# Altium footprint library Footprint.PcbLib: 105 footprints (part 4 of 7)
Each footprint in its own frame and in the unit in brackets; x right, y up, seen from the top. Pads: shape width x height; smd on the part's side, far side on the other; paste and mask are expansions set on the pad; w line width, h text height; cw(c..) or ccw(c..) is an arc to the next point about the centre after c.
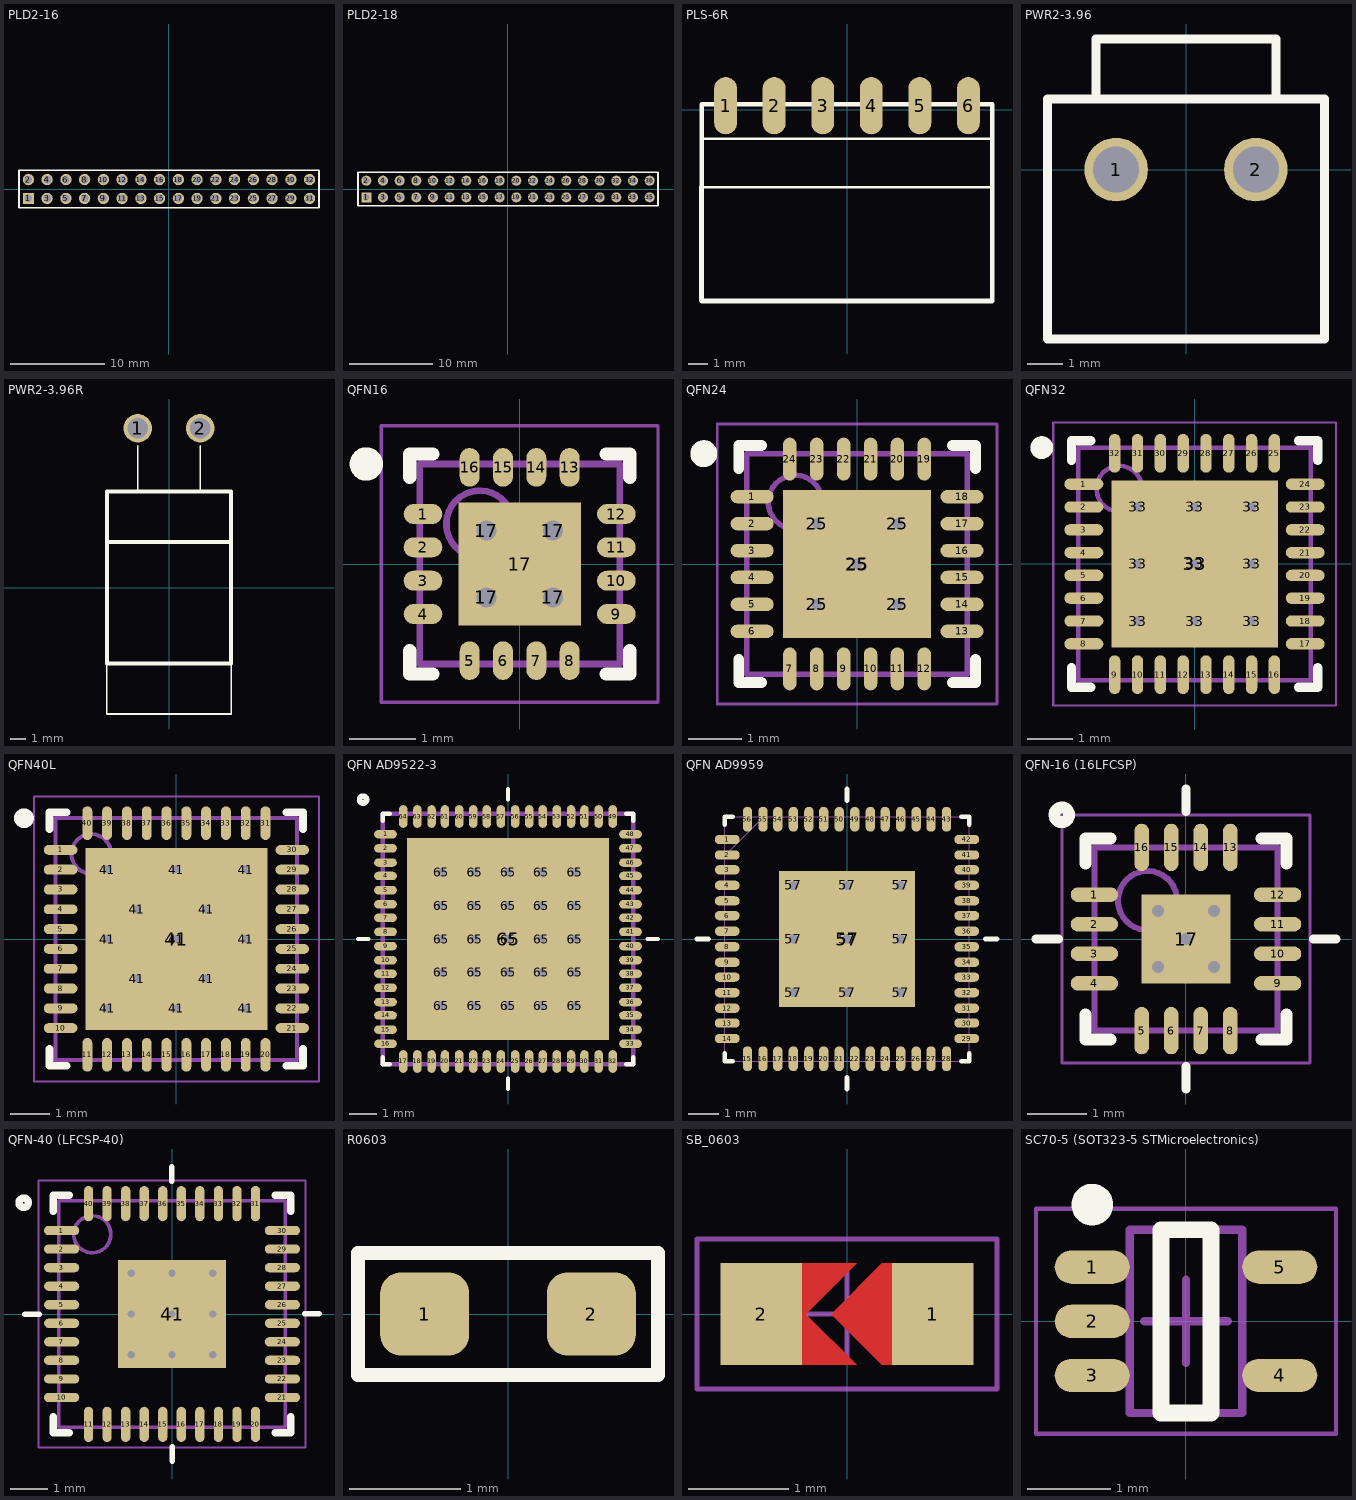
[diagram p3: the footprints below, top view; thin cyan lines are the x and y axes]

## PLD2-16 [mm]
pads (32):
  rect 1.2x1.2 hole 0.8: 1(-15,-1)
  round 1.2 hole 0.8: 2(-15,1) 3(-13,-1) 4(-13,1) 5(-11,-1) 6(-11,1) 7(-9,-1) 8(-9,1) 9(-7,-1) 10(-7,1) 11(-5,-1) 12(-5,1) 13(-3,-1) 14(-3,1) 15(-1,-1) 16(-1,1) 17(1,-1) 18(1,1) 19(3,-1) 20(3,1) 21(5,-1) 22(5,1) 23(7,-1) 24(7,1) 25(9,-1) 26(9,1) 27(11,-1) 28(11,1) 29(13,-1) 30(13,1) 31(15,-1) 32(15,1)
Top Overlay:
  lines w0.2: -16,1 -16,1.935 ; -16,-2 -16,2 16,2 16,-2 -16,-2

## PLD2-18 [mm]
pads (36):
  rect 1.2x1.2 hole 0.8: 1(-17,-1)
  round 1.2 hole 0.8: 2(-17,1) 3(-15,-1) 4(-15,1) 5(-13,-1) 6(-13,1) 7(-11,-1) 8(-11,1) 9(-9,-1) 10(-9,1) 11(-7,-1) 12(-7,1) 13(-5,-1) 14(-5,1) 15(-3,-1) 16(-3,1) 17(-1,-1) 18(-1,1) 19(1,-1) 20(1,1) 21(3,-1) 22(3,1) 23(5,-1) 24(5,1) 25(7,-1) 26(7,1) 27(9,-1) 28(9,1) 29(11,-1) 30(11,1) 31(13,-1) 32(13,1) 33(15,-1) 34(15,1) 35(17,-1) 36(17,1)
Top Overlay:
  lines w0.2: -18,1 -18,1.935 ; -18,-2 18,-2 18,2 -18,2 -18,-2

## PLS-6R [mm]
pads (6):
  oval 1.2x3 smd: 1(-6.35,0.225) 2(-3.81,0.225) 3(-1.27,0.225) 4(1.27,0.225) 5(3.81,0.225) 6(6.35,0.225)
Top Overlay:
  lines w0.127: -7.62,-4.04 -7.62,-1.5 7.62,-1.5 7.62,-4.04 -7.62,-4.04
  lines w0.254: -7.62,-9.98 -7.62,-4.04 -7.6,-4.02 -7.6,0.3 7.6,0.3 7.6,-4.06 7.6,-10 -7.6,-10 -7.62,-9.98

## PWR2-3.96 [mm]
pads (2):
  round 1.8 hole 1.3: 1(-1.98,0) 2(1.98,0)
Top Overlay:
  lines w0.254: -2.55,2 -2.55,3.7 2.55,3.7 2.55,2 ; -3.93,-4.8 3.93,-4.8 3.93,2 -3.93,2 -3.93,-4.8

## PWR2-3.96R [mm]
pads (2):
  round 1.8 hole 1.3: 1(-1.98,10.1) 2(1.98,10.1)
Top Overlay:
  lines w0.1: -3.93,-4.8 -3.93,-8 3.93,-8 3.93,-4.8 ; -1.98,6.1 -1.98,9 ; 1.98,6.1 1.98,9
  lines w0.254: -3.925,2.9 3.9,2.9 ; -3.93,-4.8 3.93,-4.8 3.93,6.1 -3.93,6.1 -3.93,-4.8

## QFN16 [mm] "QFN16 3x3 0.5P"
height 1
pads (21):
  oval 0.58x0.3 smd: 1(-1.45,0.75) 2(-1.45,0.25) 3(-1.45,-0.25) 4(-1.45,-0.75) 9(1.45,-0.75) 10(1.45,-0.25) 11(1.45,0.25) 12(1.45,0.75)
  oval 0.3x0.58 smd: 5(-0.75,-1.45) 6(-0.25,-1.45) 7(0.25,-1.45) 8(0.75,-1.45) 13(0.75,1.45) 14(0.25,1.45) 15(-0.25,1.45) 16(-0.75,1.45)
  round 0.7 hole 0.3: 17(-0.5,-0.5) 17(-0.5,0.5) 17(0.5,-0.5) 17(0.5,0.5)
  rect 1.84x1.84 smd: 17(0,0)
Top Overlay:
  circle w0.25: c-2.3,1.5 r0.125
  lines w0.2: -1.65,-1.3 -1.65,-1.65 -1.3,-1.65 ; -1.65,1.3 -1.65,1.65 -1.3,1.65 ; 1.3,-1.65 1.65,-1.65 1.65,-1.3 ; 1.3,1.65 1.65,1.65 1.65,1.3
Mechanical 13:
  circle w0.1: c-0.6,0.6 r0.5
  lines w0.1: -1.5,-1.5 -1.5,1.5 1.5,1.5 1.5,-1.5 -1.5,-1.5
Mechanical 15:
  lines w0.05: -2.075,-2.075 -2.075,2.075 2.075,2.075 2.075,-2.075 -2.075,-2.075
  lines w0.1: -0.5,0 0.5,0 ; 0,-0.5 0,0.5
3D body: height 1, standoff 0.03, extent -1.5,-1.5 1.5,1.5

## QFN24 [mm] "QFN, 24-Leads, Body 4.00x4.00mm, Pitch 0.50mm, Thermal Pad 2.75x2.75mm, IPC Medium Density"
height 0.9
pads (30):
  oval 0.8x0.25 smd: 1(-1.95,1.25) 2(-1.95,0.75) 3(-1.95,0.25) 4(-1.95,-0.25) 5(-1.95,-0.75) 6(-1.95,-1.25) 13(1.95,-1.25) 14(1.95,-0.75) 15(1.95,-0.25) 16(1.95,0.25) 17(1.95,0.75) 18(1.95,1.25)
  oval 0.25x0.8 smd: 7(-1.25,-1.95) 8(-0.75,-1.95) 9(-0.25,-1.95) 10(0.25,-1.95) 11(0.75,-1.95) 12(1.25,-1.95) 19(1.25,1.95) 20(0.75,1.95) 21(0.25,1.95) 22(-0.25,1.95) 23(-0.75,1.95) 24(-1.25,1.95)
  round 0.5 hole 0.2: 25(-0.75,-0.75) 25(-0.75,0.75) 25(0,0) 25(0.75,-0.75) 25(0.75,0.75)
  rect 2.75x2.75 smd: 25(0,0)
Top Overlay:
  circle w0.25: c-2.85,2.05 r0.125
  lines w0.2: -2.2,-1.775 -2.2,-2.2 -1.775,-2.2 ; -2.2,1.775 -2.2,2.2 -1.775,2.2 ; 1.775,-2.2 2.2,-2.2 2.2,-1.775 ; 1.775,2.2 2.2,2.2 2.2,1.775
Mechanical 13:
  circle w0.1: c-1.15,1.15 r0.5
  lines w0.1: -2.05,-2.05 2.05,-2.05 2.05,2.05 -2.05,2.05 -2.05,-2.05
Mechanical 15:
  lines w0.05: -2.6,-2.6 2.6,-2.6 2.6,2.6 -2.6,2.6 -2.6,-2.6
  lines w0.1: -0.5,0 0.5,0 ; 0,-0.5 0,0.5
3D body: height 0.9, standoff 0, extent -2.05,-2.05 2.05,2.05

## QFN32 [mm]
height 1
pads (42):
  oval 0.85x0.25 smd: 1(-2.425,1.75) 2(-2.425,1.25) 3(-2.425,0.75) 4(-2.425,0.25) 5(-2.425,-0.25) 6(-2.425,-0.75) 7(-2.425,-1.25) 8(-2.425,-1.75) 17(2.425,-1.75) 18(2.425,-1.25) 19(2.425,-0.75) 20(2.425,-0.25) 21(2.425,0.25) 22(2.425,0.75) 23(2.425,1.25) 24(2.425,1.75)
  oval 0.25x0.85 smd: 9(-1.75,-2.425) 10(-1.25,-2.425) 11(-0.75,-2.425) 12(-0.25,-2.425) 13(0.25,-2.425) 14(0.75,-2.425) 15(1.25,-2.425) 16(1.75,-2.425) 25(1.75,2.425) 26(1.25,2.425) 27(0.75,2.425) 28(0.25,2.425) 29(-0.25,2.425) 30(-0.75,2.425) 31(-1.25,2.425) 32(-1.75,2.425)
  round 0.5 hole 0.2: 33(-1.25,-1.25) 33(-1.25,0) 33(-1.25,1.25) 33(0,-1.25) 33(0,0) 33(0,1.25) 33(1.25,-1.25) 33(1.25,0) 33(1.25,1.25)
  rect 3.65x3.65 smd: 33(0,0)
Top Overlay:
  circle w0.25: c-3.35,2.55 r0.125
  lines w0.2: -2.7,-2.275 -2.7,-2.7 -2.275,-2.7 ; -2.7,2.275 -2.7,2.7 -2.275,2.7 ; 2.275,-2.7 2.7,-2.7 2.7,-2.275 ; 2.275,2.7 2.7,2.7 2.7,2.275
Mechanical 13:
  circle w0.1: c-1.65,1.65 r0.5
  lines w0.1: -2.55,-2.55 2.55,-2.55 2.55,2.55 -2.55,2.55 -2.55,-2.55
Mechanical 15:
  lines w0.05: -3.1,-3.1 3.1,-3.1 3.1,3.1 -3.1,3.1 -3.1,-3.1
  lines w0.1: -0.5,0 0.5,0 ; 0,-0.5 0,0.5
3D body: height 1, standoff 0, extent -2.55,-2.55 2.55,2.55

## QFN40L [mm]
height 0.8
pads (54):
  oval 0.85x0.25 smd: 1(-2.925,2.25) 2(-2.925,1.75) 3(-2.925,1.25) 4(-2.925,0.75) 5(-2.925,0.25) 6(-2.925,-0.25) 7(-2.925,-0.75) 8(-2.925,-1.25) 9(-2.925,-1.75) 10(-2.925,-2.25) 21(2.925,-2.25) 22(2.925,-1.75) 23(2.925,-1.25) 24(2.925,-0.75) 25(2.925,-0.25) 26(2.925,0.25) 27(2.925,0.75) 28(2.925,1.25) 29(2.925,1.75) 30(2.925,2.25)
  oval 0.25x0.85 smd: 11(-2.25,-2.925) 12(-1.75,-2.925) 13(-1.25,-2.925) 14(-0.75,-2.925) 15(-0.25,-2.925) 16(0.25,-2.925) 17(0.75,-2.925) 18(1.25,-2.925) 19(1.75,-2.925) 20(2.25,-2.925) 31(2.25,2.925) 32(1.75,2.925) 33(1.25,2.925) 34(0.75,2.925) 35(0.25,2.925) 36(-0.25,2.925) 37(-0.75,2.925) 38(-1.25,2.925) 39(-1.75,2.925) 40(-2.25,2.925)
  round 0.5 hole 0.2: 41(-1.75,-1.75) 41(-1.75,0) 41(-1.75,1.75) 41(-1,-1) 41(-1,0.75) 41(0,-1.75) 41(0,0) 41(0,1.75) 41(0.75,-1) 41(0.75,0.75) 41(1.75,-1.75) 41(1.75,0) 41(1.75,1.75)
  rect 4.6x4.6 smd: 41(0,0)
Top Overlay:
  circle w0.25: c-3.85,3.05 r0.125
  lines w0.2: -3.2,-2.775 -3.2,-3.2 -2.775,-3.2 ; -3.2,2.775 -3.2,3.2 -2.775,3.2 ; 2.775,-3.2 3.2,-3.2 3.2,-2.775 ; 2.775,3.2 3.2,3.2 3.2,2.775
Mechanical 13:
  circle w0.1: c-2.15,2.15 r0.5
  lines w0.1: -3.05,-3.05 3.05,-3.05 3.05,3.05 -3.05,3.05 -3.05,-3.05
Mechanical 15:
  lines w0.05: -3.6,-3.6 3.6,-3.6 3.6,3.6 -3.6,3.6 -3.6,-3.6
  lines w0.1: -0.5,0 0.5,0 ; 0,-0.5 0,0.5
3D body: height 0.8, standoff 0, extent -3.05,-3.05 3.05,3.05

## QFN AD9522-3 [mil]
pads (90):
  oval 32x12 smd: 1(-173,148) 2(-173,128) 3(-173,108) 4(-173,89) 5(-173,69) 6(-173,49) 7(-173,30) 8(-173,10) 9(-173,-10) 10(-173,-30) 11(-173,-49) 12(-173,-69) 13(-173,-89) 14(-173,-108) 15(-173,-128) 16(-173,-148) 33(173,-148) 34(173,-128) 35(173,-108) 36(173,-89) 37(173,-69) 38(173,-49) 39(173,-30) 40(173,-10) 41(173,10) 42(173,30) 43(173,49) 44(173,69) 45(173,89) 46(173,108) 47(173,128) 48(173,148)
  oval 12x32 smd: 17(-148,-173) 18(-128,-173) 19(-108,-173) 20(-89,-173) 21(-69,-173) 22(-49,-173) 23(-30,-173) 24(-10,-173) 25(10,-173) 26(30,-173) 27(49,-173) 28(69,-173) 29(89,-173) 30(108,-173) 31(128,-173) 32(148,-173) 49(148,173) 50(128,173) 51(108,173) 52(89,173) 53(69,173) 54(49,173) 55(30,173) 56(10,173) 57(-10,173) 58(-30,173) 59(-49,173) 60(-69,173) 61(-89,173) 62(-108,173) 63(-128,173) 64(-148,173)
  round 27.56 hole 11.81: 65(-94.49,-94.49) 65(-94.49,-47.24) 65(-94.49,0) 65(-94.49,47.24) 65(-94.49,94.49) 65(-47.24,-94.49) 65(-47.24,-47.24) 65(-47.24,0) 65(-47.24,47.24) 65(-47.24,94.49) 65(0,-94.49) 65(0,-47.24) 65(0,0) 65(0,47.24) 65(0,94.49) 65(47.24,-94.49) 65(47.24,-47.24) 65(47.24,0) 65(47.24,47.24) 65(47.24,94.49) 65(94.49,-94.49) 65(94.49,-47.24) 65(94.49,0) 65(94.49,47.24) 65(94.49,94.49)
  rect 285x285 smd: 65(0,0)
Top Overlay:
  circle w7.87: c-204.72,196.85 r4.92
  lines w6: -211.85,0 -196.85,0 ; -177,-167 -177,-177 -167,-177 ; -177,167 -177,177 -167,177 ; 0,-211.85 0,-196.85 ; 0,196.85 0,211.85 ; 167,-177 177,-177 177,-167 ; 167,177 177,177 177,167 ; 196.85,0 211.85,0
Mechanical 13:
  lines w6: -177,-154 -177,-142 ; -177,-134 -177,-122 ; -177,-114 -177,-102 ; -177,-95 -177,-83 ; -177,-75 -177,-63 ; -177,-55 -177,-43 ; -177,-36 -177,-24 ; -177,-16 -177,-4 ; -177,4 -177,16 ; -177,24 -177,36 ; -177,43 -177,55 ; -177,63 -177,75 ; -177,83 -177,95 ; -177,102 -177,114 ; -177,122 -177,134 ; -177,142 -177,154 ; -154,-177 -142,-177 ; -154,177 -142,177 ; -134,-177 -122,-177 ; -134,177 -122,177 ; -114,-177 -102,-177 ; -114,177 -102,177 ; -95,-177 -83,-177 ; -95,177 -83,177 ; -75,-177 -63,-177 ; -75,177 -63,177 ; -55,-177 -43,-177 ; -55,177 -43,177 ; -36,-177 -24,-177 ; -36,177 -24,177 ; -16,-177 -4,-177 ; -16,177 -4,177 ; 4,-177 16,-177 ; 4,177 16,177 ; 24,-177 36,-177 ; 24,177 36,177 ; 43,-177 55,-177 ; 43,177 55,177 ; 63,-177 75,-177 ; 63,177 75,177 ; 83,-177 95,-177 ; 83,177 95,177 ; 102,-177 114,-177 ; 102,177 114,177 ; 122,-177 134,-177 ; 122,177 134,177 ; 142,-177 154,-177 ; 142,177 154,177 ; 177,-154 177,-142 ; 177,-134 177,-122 ; 177,-114 177,-102 ; 177,-95 177,-83 ; 177,-75 177,-63 ; 177,-55 177,-43 ; 177,-36 177,-24 ; 177,-16 177,-4 ; 177,4 177,16 ; 177,24 177,36 ; 177,43 177,55 ; 177,63 177,75 ; 177,83 177,95 ; 177,102 177,114 ; 177,122 177,134 ; 177,142 177,154 ; -177,-177 -177,177 177,177 177,-177 -177,-177

## QFN AD9959 [mil]
pads (66):
  oval 32x12 smd: 1(-154,128) 2(-154,108) 3(-154,89) 4(-154,69) 5(-154,49) 6(-154,30) 7(-154,10) 8(-154,-10) 9(-154,-30) 10(-154,-49) 11(-154,-69) 12(-154,-89) 13(-154,-108) 14(-154,-128) 29(154,-128) 30(154,-108) 31(154,-89) 32(154,-69) 33(154,-49) 34(154,-30) 35(154,-10) 36(154,10) 37(154,30) 38(154,49) 39(154,69) 40(154,89) 41(154,108) 42(154,128)
  oval 12x32 smd: 15(-128,-154) 16(-108,-154) 17(-89,-154) 18(-69,-154) 19(-49,-154) 20(-30,-154) 21(-10,-154) 22(10,-154) 23(30,-154) 24(49,-154) 25(69,-154) 26(89,-154) 27(108,-154) 28(128,-154) 43(128,154) 44(108,154) 45(89,154) 46(69,154) 47(49,154) 48(30,154) 49(10,154) 50(-10,154) 51(-30,154) 52(-49,154) 53(-69,154) 54(-89,154) 55(-108,154) 56(-128,154)
  round 27.56 hole 11.81: 57(-68.9,-68.9) 57(-68.9,0) 57(-68.9,68.9) 57(0,-68.9) 57(0,0) 57(0,68.9) 57(68.9,-68.9) 57(68.9,0) 57(68.9,68.9)
  rect 175x175 smd: 57(0,0)
Top Overlay:
  lines w6: -192.85,0 -177.85,0 ; -157,-147 -157,-157 -147,-157 ; -157,147 -157,157 -147,157 ; 0,-192.85 0,-177.85 ; 0,177.85 0,192.85 ; 147,-157 157,-157 157,-147 ; 147,157 157,157 157,147 ; 177.85,0 192.85,0
  text "." at -185.04,169.29 h60
Mechanical 13:
  lines w0: -157,-134 -157,-122 ; -157,-114 -157,-102 ; -157,-94 -157,-83 ; -157,-75 -157,-63 ; -157,-55 -157,-43 ; -157,-35 -157,-24 ; -157,-16 -157,-4 ; -157,4 -157,16 ; -157,24 -157,35 ; -157,43 -157,55 ; -157,63 -157,75 ; -157,83 -157,94 ; -157,102 -157,114 ; -157,107 -107,157 ; -157,122 -157,134 ; -134,-157 -122,-157 ; -134,157 -122,157 ; -114,-157 -102,-157 ; -114,157 -102,157 ; -94,-157 -83,-157 ; -94,157 -83,157 ; -75,-157 -63,-157 ; -75,157 -63,157 ; -55,-157 -43,-157 ; -55,157 -43,157 ; -35,-157 -24,-157 ; -35,157 -24,157 ; -16,-157 -4,-157 ; -16,157 -4,157 ; 4,-157 16,-157 ; 4,157 16,157 ; 24,-157 35,-157 ; 24,157 35,157 ; 43,-157 55,-157 ; 43,157 55,157 ; 63,-157 75,-157 ; 63,157 75,157 ; 83,-157 94,-157 ; 83,157 94,157 ; 102,-157 114,-157 ; 102,157 114,157 ; 122,-157 134,-157 ; 122,157 134,157 ; 157,-134 157,-122 ; 157,-114 157,-102 ; 157,-94 157,-83 ; 157,-75 157,-63 ; 157,-55 157,-43 ; 157,-35 157,-24 ; 157,-16 157,-4 ; 157,4 157,16 ; 157,24 157,35 ; 157,43 157,55 ; 157,63 157,75 ; 157,83 157,94 ; 157,102 157,114 ; 157,122 157,134 ; -157,-157 157,-157 157,157 -157,157 -157,-157

## QFN-16 (16LFCSP) [mm]
height 0.8
pads (17):
  oval 0.8x0.25 smd: 1(-1.55,0.75) 2(-1.55,0.25) 3(-1.55,-0.25) 4(-1.55,-0.75) 9(1.55,-0.75) 10(1.55,-0.25) 11(1.55,0.25) 12(1.55,0.75)
  oval 0.25x0.8 smd: 5(-0.75,-1.55) 6(-0.25,-1.55) 7(0.25,-1.55) 8(0.75,-1.55) 13(0.75,1.55) 14(0.25,1.55) 15(-0.25,1.55) 16(-0.75,1.55)
  rect 1.5x1.5 smd: 17(0,0)
via -0.475,-0.475 diameter 0.5 hole 0.2
via 0.475,-0.475 diameter 0.5 hole 0.2
via 0.475,0.475 diameter 0.5 hole 0.2
via -0.475,0.475 diameter 0.5 hole 0.2
via 0,0 diameter 0.5 hole 0.2
Top Overlay:
  circle w0.2: c-2.1,2.1 r0.125
  lines w0.152: -2.537,-0.004 -2.156,-0.004 ; -0.004,2.156 -0.004,2.537 ; 0.004,-2.537 0.004,-2.156 ; 2.156,0.004 2.537,0.004
  lines w0.2: -1.7,-1.275 -1.7,-1.7 -1.275,-1.7 ; -1.7,1.275 -1.7,1.7 -1.275,1.7 ; 1.275,-1.7 1.7,-1.7 1.7,-1.275 ; 1.275,1.7 1.7,1.7 1.7,1.275
Mechanical 13:
  circle w0.1: c-0.65,0.65 r0.5
  lines w0.1: -1.55,-1.55 1.55,-1.55 1.55,1.55 -1.55,1.55 -1.55,-1.55
Mechanical 15:
  lines w0.05: -2.1,-2.1 2.1,-2.1 2.1,2.1 -2.1,2.1 -2.1,-2.1
  lines w0.1: -0.5,0 0.5,0 ; 0,-0.5 0,0.5
3D body: height 0.8, standoff 0.05, extent -1.55,-1.55 1.55,1.55

## QFN-40 (LFCSP-40) [mm] "QFN, 40-Leads, Body 6.00x6.00mm, Pitch 0.50mm, Thermal Pad 2.90x2.90mm, IPC Medium Density"
height 0.8
pads (41):
  oval 0.95x0.25 smd: 1(-2.975,2.25) 2(-2.975,1.75) 3(-2.975,1.25) 4(-2.975,0.75) 5(-2.975,0.25) 6(-2.975,-0.25) 7(-2.975,-0.75) 8(-2.975,-1.25) 9(-2.975,-1.75) 10(-2.975,-2.25) 21(2.975,-2.25) 22(2.975,-1.75) 23(2.975,-1.25) 24(2.975,-0.75) 25(2.975,-0.25) 26(2.975,0.25) 27(2.975,0.75) 28(2.975,1.25) 29(2.975,1.75) 30(2.975,2.25)
  oval 0.25x0.95 smd: 11(-2.25,-2.975) 12(-1.75,-2.975) 13(-1.25,-2.975) 14(-0.75,-2.975) 15(-0.25,-2.975) 16(0.25,-2.975) 17(0.75,-2.975) 18(1.25,-2.975) 19(1.75,-2.975) 20(2.25,-2.975) 31(2.25,2.975) 32(1.75,2.975) 33(1.25,2.975) 34(0.75,2.975) 35(0.25,2.975) 36(-0.25,2.975) 37(-0.75,2.975) 38(-1.25,2.975) 39(-1.75,2.975) 40(-2.25,2.975)
  rect 2.9x2.9 smd: 41(0,0)
via 1.1,-1.1 diameter 0.5 hole 0.2
via 0,-1.1 diameter 0.5 hole 0.2
via -1.1,-1.1 diameter 0.5 hole 0.2
via 1.1,0 diameter 0.5 hole 0.2
via 0,0 diameter 0.5 hole 0.2
via -1.1,0 diameter 0.5 hole 0.2
via 1.1,1.1 diameter 0.5 hole 0.2
via 0,1.1 diameter 0.5 hole 0.2
via -1.1,1.1 diameter 0.5 hole 0.2
Top Overlay:
  circle w0.2: c-4,3 r0.125
  lines w0.152: -3.962,-0.004 -3.581,-0.004 ; -0.004,3.581 -0.004,3.962 ; 0.004,-3.962 0.004,-3.581 ; 3.581,0.004 3.962,0.004
  lines w0.2: -3.2,-2.775 -3.2,-3.2 -2.775,-3.2 ; -3.2,2.775 -3.2,3.2 -2.775,3.2 ; 2.775,-3.2 3.2,-3.2 3.2,-2.775 ; 2.775,3.2 3.2,3.2 3.2,2.775
Mechanical 13:
  circle w0.1: c-2.15,2.15 r0.5
  lines w0.1: -3.05,-3.05 3.05,-3.05 3.05,3.05 -3.05,3.05 -3.05,-3.05
Mechanical 15:
  lines w0.05: -3.6,-3.6 3.6,-3.6 3.6,3.6 -3.6,3.6 -3.6,-3.6
  lines w0.1: -0.5,0 0.5,0 ; 0,-0.5 0,0.5
3D body: height 0.8, standoff 0.05, extent -3.05,-3.05 3.05,3.05

## R0603 [mm]
pads (2):
  rrect50% 0.8x0.75 smd: 1(-0.75,0) 2(0.75,0)
Top Overlay:
  lines w0.125: -1.35,0.55 -1.35,-0.55 1.35,-0.55 1.35,0.55 ; -1.35,0.55 -1.35,0.55 ; -1.35,0.55 1.35,0.55 ; 1.35,0.55 1.35,0.55
3D body "SMD R-0603.STEP": height 0.45, standoff -0.01, extent -0.8,-0.4 0.8,0.4

## SB_0603 [mil]
pads (2):
  rect 32x40 smd: 1(33.75,0) 2(-33.75,0)
Top Layer:
  region: 23.75,20 13.75,20 -6.25,0 13.75,-20 23.75,-20
  region: -26.25,0 -16.25,0 3.75,20 -26.25,20
  region: -26.25,0 -16.25,0 3.75,-20 -26.25,-20
Top Paste:
  region: 23.75,20 13.75,20 -6.25,0 13.75,-20 23.75,-20
  region: -26.25,0 -16.25,0 3.75,20 -26.25,20
  region: -26.25,0 -16.25,0 3.75,-20 -26.25,-20
Top Solder:
  region: 23.75,24 13.75,24 -10.25,0 13.75,-24 23.75,-24
  region: -26.25,0 -12.25,0 11.75,24 -26.25,24
  region: -26.25,0 -12.25,0 11.75,-24 -26.25,-24
Mechanical 15:
  lines w1.97: -18.7,0 18.7,0 ; 0,-18.7 0,18.7 ; -59.06,-29.53 -59.06,29.53 59.06,29.53 59.06,-29.53 -59.06,-29.53

## SC70-5 (SOT323-5 STMicroelectronics) [mm]
height 1.1
pads (5):
  oval 0.9x0.4 smd: 1(-1.125,0.65) 2(-1.125,0) 3(-1.125,-0.65) 4(1.125,-0.65) 5(1.125,0.65)
Top Overlay:
  circle w0.25: c-1.125,1.4 r0.125
  lines w0.2: -0.3,-1.1 0.3,-1.1 0.3,1.1 -0.3,1.1 -0.3,-1.1
Mechanical 13:
  lines w0.1: -0.675,-1.1 -0.675,1.1 0.675,1.1 0.675,-1.1 -0.675,-1.1
Mechanical 15:
  lines w0.05: -1.8,-1.35 -1.8,1.35 1.8,1.35 1.8,-1.35 -1.8,-1.35
  lines w0.1: -0.5,0 0.5,0 ; 0,-0.5 0,0.5
3D body: height 1.1, standoff 0.1, extent -0.675,-1.1 0.675,1.1